# Altium footprint library P8.PcbLib: 20 footprints (part 1 of 2)
Each footprint in its own frame and in the unit in brackets; x right, y up, seen from the top. Pads: shape width x height; smd on the part's side, far side on the other; paste and mask are expansions set on the pad; w line width, h text height; cw(c..) or ccw(c..) is an arc to the next point about the centre after c.
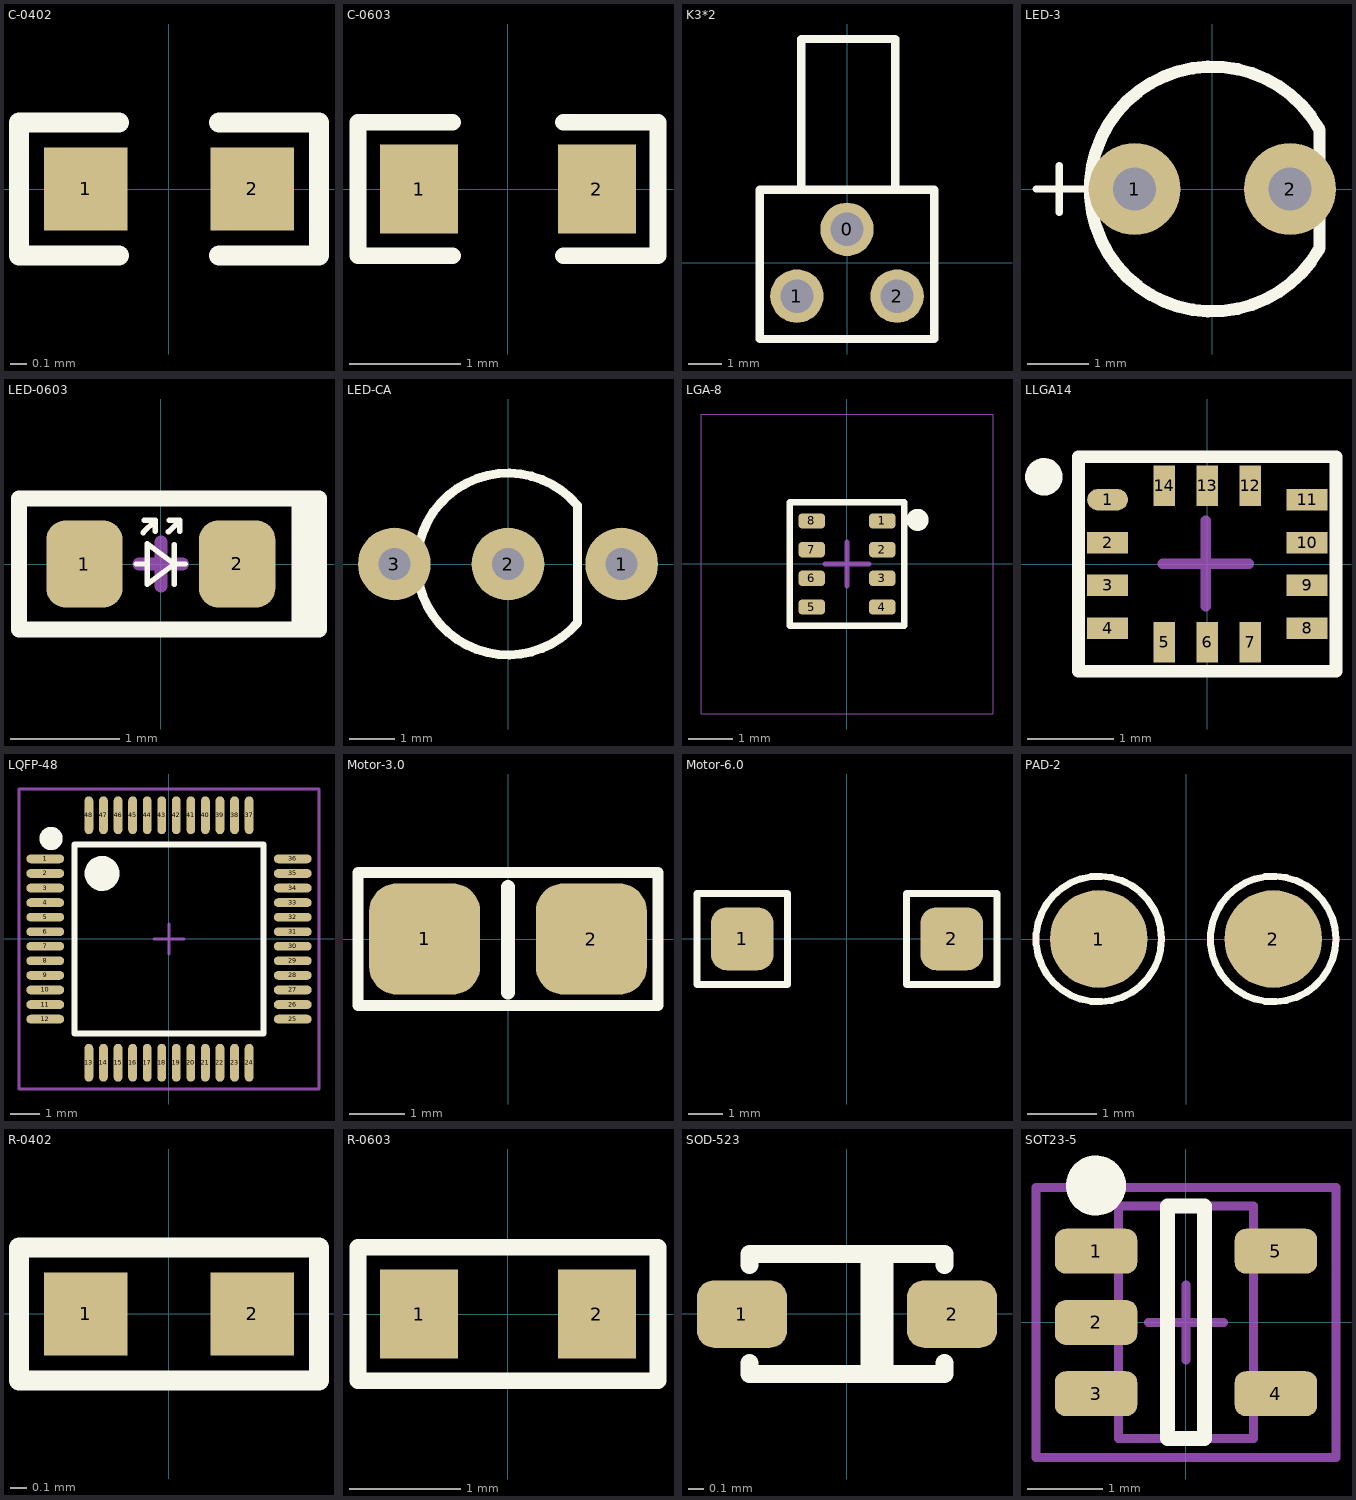
[diagram p0: the footprints below, top view; thin cyan lines are the x and y axes]

## C-0402 [mm]
height 1.4
pads (2):
  rect 0.5x0.5 smd mask+0.05: 1(-0.5,0) 2(0.5,0)
Top Overlay:
  lines w0.12: -0.3,-0.4 -0.9,-0.4 ; -0.3,0.4 -0.9,0.4 -0.9,-0.4 ; 0.3,-0.4 0.9,-0.4 0.9,0.4 0.3,0.4 ; -0.9,-0.4 -0.9,-0.4
3D body: height 0.5, standoff 0, extent -0.3,-0.25 0.3,0.25
3D body: height 0.5, standoff 0, extent 0.3,-0.25 0.5,0.25
3D body: height 0.5, standoff 0, extent -0.5,-0.25 -0.3,0.25

## C-0603 [mm]
height 0.8
pads (2):
  rect 0.7x0.8 smd mask+0.05: 1(-0.8,0) 2(0.8,0)
Top Overlay:
  lines w0.15: -0.5,-0.6 -1.35,-0.6 -1.35,0.6 -0.5,0.6 ; 0.5,-0.6 1.35,-0.6 1.35,0.6 0.5,0.6
3D body: height 0.7, standoff 0, extent -0.8,-0.4 -0.5,0.4
3D body: height 0.7, standoff 0, extent -0.5,-0.4 0.5,0.4
3D body: height 0.7, standoff 0, extent 0.5,-0.4 0.8,0.4

## K3*2 [mm]
height 0.65
pads (3):
  round 1.6 hole 1 mask+0.05: 0(0,1) 1(-1.5,-1) 2(1.5,-1)
Top Overlay:
  lines w0.254: -1.372,2.203 -1.372,6.703 1.448,6.703 1.448,2.203 ; -2.616,-2.286 2.616,-2.286 2.616,2.184 -2.616,2.184 -2.616,-2.286

## LED-3 [mm]
height 1.4
pads (2):
  round 1.5 hole 0.7 mask+0.05: 1(-1.27,0) 2(1.27,0)
Top Overlay:
  lines w0.12: -2.881,0 -2.119,0 ; -2.5,-0.381 -2.5,0.381
  lines w0.2: 1.751,-0.966 cw(c0,0) 1.751,0.966 1.751,-0.966
3D body: height 8, standoff 7.5, extent -1.984,-1.996 2,1.996
3D body: height 11.5, standoff 7.5, extent -1.488,-1.497 1.5,1.497
3D body: height 13, standoff 10, extent -1.484,-1.494 1.5,1.494
3D body: height 7.5, standoff 0, extent -2.083,-2.096 2.1,2.096

## LED-0603 [mm]
pads (2):
  rrect50% 0.7x0.8 smd mask+0.05: 1(-0.7,0) 2(0.7,0)
Top Overlay:
  lines w0.05: -0.225,0 -0.125,0 ; -0.163,0.287 -0.05,0.4 ; -0.15,0.4 -0.05,0.4 ; -0.05,0.3 -0.05,0.4 ; 0.069,0.294 0.175,0.4 ; 0.075,0.4 0.175,0.4 ; 0.125,-0.188 0.125,0.175 ; 0.175,0.3 0.175,0.4 ; 0.225,0 0.125,0 ; 0.125,0 -0.125,0.188 -0.125,-0.188 0.125,0
  lines w0.15: 1.275,-0.575 1.275,0.6 ; 1.35,-0.575 1.35,0.6 ; -1.3,-0.6 1.45,-0.6 1.45,0.6 -1.3,0.6 -1.3,-0.6
Mechanical 15:
  lines w0.12: -0.2,0 0.2,0 ; 0,-0.2 0,0.2
3D body: height 0.2, standoff 0, extent -0.5,-0.4 0.5,0.4
3D body: height 0.4, standoff 0.2, extent -0.5,-0.4 0.5,0.4
3D body: height 0.2, standoff 0, extent -0.8,-0.4 -0.5,0.4
3D body: height 0.2, standoff 0, extent 0.5,-0.4 0.8,0.4

## LED-CA [mm]
pads (3):
  round 1.6 hole 0.7 mask+0.05: 1(2.5,0) 2(0,0) 3(-2.5,0)
Top Overlay:
  lines w0.2: 1.528,1.28 1.528,-1.29 cw(c0,0) 1.533,1.284
3D body: height 10, standoff 0, extent -2.976,-2.994 3,2.994
3D body: height 15.5, standoff 12.5, extent -1.484,-1.494 1.5,1.494
3D body: height 14, standoff 10, extent -1.488,-1.497 1.5,1.497
3D body: height 10.5, standoff 10, extent -1.984,-1.996 2,1.996

## LGA-8 [mm] "FOR 2SMPB-02 AND BMP280"
height 0.85
pads (8):
  rrect50% 0.6x0.35 smd mask+0.05: 1(0.8,0.975) 2(0.8,0.325) 3(0.8,-0.325) 4(0.8,-0.975) 5(-0.8,-0.975) 6(-0.8,-0.325) 7(-0.8,0.325) 8(-0.8,0.975)
Top Overlay:
  circle w0.3: c1.6,1 r0.1
  lines w0.15: -1.3,-1.4 -1.3,1.4 1.3,1.4 1.3,-1.4 -1.3,-1.4
Mechanical 2:
  lines w0: -3.3,-3.4 -3.3,3.4 1.3,3.4 3.3,3.4 3.3,-3.4 -3.3,-3.4
Mechanical 15:
  lines w0.12: -0.5,0 0.5,0 ; 0,-0.5 0,0.5
3D body: height 0.95, standoff 0, extent -1,-1.275 1,1.275

## LLGA14 [mm]
height 1.4
pads (14):
  oval 0.475x0.25 smd: 1(-1.162,0.75)
  rect 0.475x0.25 smd: 2(-1.162,0.25) 3(-1.162,-0.25) 4(-1.162,-0.75) 8(1.163,-0.75) 9(1.163,-0.25) 10(1.163,0.25) 11(1.163,0.75)
  rect 0.25x0.475 smd: 5(-0.5,-0.913) 6(0,-0.913) 7(0.5,-0.913) 12(0.5,0.913) 13(0,0.913) 14(-0.5,0.913)
Top Overlay:
  circle w0.254: c-1.905,1.016 r0.092
  lines w0.15: -1.5,-1.25 -1.5,1.25 1.5,1.25 1.5,-1.25 -1.5,-1.25
Mechanical 15:
  lines w0.12: -0.518,0.004 0.482,0.004 ; -0.018,-0.496 -0.018,0.504
3D body: height 0.9, standoff 0.01, extent -1.5,-1.286 1.5,1.286

## LQFP-48 [mm] "TSQFP, 48-Leads, Body 9.1x9.1mm (max), Pitch 0.50mm, IPC Medium Density"
height 1.5
pads (48):
  oval 1.3x0.3 smd mask+0.05: 1(-4.25,2.75) 2(-4.25,2.25) 3(-4.25,1.75) 4(-4.25,1.25) 5(-4.25,0.75) 6(-4.25,0.25) 7(-4.25,-0.25) 8(-4.25,-0.75) 9(-4.25,-1.25) 10(-4.25,-1.75) 11(-4.25,-2.25) 12(-4.25,-2.75) 25(4.25,-2.75) 26(4.25,-2.25) 27(4.25,-1.75) 28(4.25,-1.25) 29(4.25,-0.75) 30(4.25,-0.25) 31(4.25,0.25) 32(4.25,0.75) 33(4.25,1.25) 34(4.25,1.75) 35(4.25,2.25) 36(4.25,2.75)
  oval 0.3x1.3 smd mask+0.05: 13(-2.75,-4.25) 14(-2.25,-4.25) 15(-1.75,-4.25) 16(-1.25,-4.25) 17(-0.75,-4.25) 18(-0.25,-4.25) 19(0.25,-4.25) 20(0.75,-4.25) 21(1.25,-4.25) 22(1.75,-4.25) 23(2.25,-4.25) 24(2.75,-4.25) 37(2.75,4.25) 38(2.25,4.25) 39(1.75,4.25) 40(1.25,4.25) 41(0.75,4.25) 42(0.25,4.25) 43(-0.25,4.25) 44(-0.75,4.25) 45(-1.25,4.25) 46(-1.75,4.25) 47(-2.25,4.25) 48(-2.75,4.25)
Top Overlay:
  circle w0.6: c-2.3,2.25 r0.3
  circle w0.4: c-4.05,3.45 r0.2
  lines w0.2: -3.25,-3.25 3.25,-3.25 3.25,3.25 -3.25,3.25 -3.25,-3.25
Mechanical 15:
  lines w0.12: -0.5,0 0.5,0 ; 0,-0.5 0,0.5 ; -5.15,-5.15 5.15,-5.15 5.15,5.15 -5.15,5.15 -5.15,-5.15
3D body: height 1.56, standoff 0, extent -4.5,-4.487 4.5,4.513

## Motor-3.0 [mm]
height 1.4
pads (2):
  rrect50% 2x2 smd mask+0.05: 1(-1.5,0) 2(1.5,0)
Top Overlay:
  lines w0.2: -2.7,-1.2 2.7,-1.2 2.7,1.2 -2.7,1.2 -2.7,-1.2
  lines w0.25: 0,-0.965 0,0.94
3D body: height 0.5, standoff 0, extent -2.2,-0.7 -0.8,0.7
3D body: height 0.5, standoff 0, extent 0.8,-0.7 2.2,0.7

## Motor-6.0 [mm]
pads (2):
  rrect50% 1.8x1.8 smd mask+0.05: 1(-3,0) 2(3,0)
Top Overlay:
  lines w0.2: -4.3,-1.3 -4.3,1.295 -1.7,1.295 -1.7,-1.3 -4.3,-1.3 ; 1.7,-1.3 4.3,-1.3 4.3,1.295 1.7,1.295 1.7,-1.3
3D body: height 0.5, standoff 0, extent -3.7,-0.7 -2.3,0.7
3D body: height 0.5, standoff 0, extent 2.3,-0.7 3.7,0.7

## PAD-2 [mm]
pads (2):
  round 1.4 smd mask+0.05: 1(-1.25,0) 2(1.25,0)
Top Overlay:
  circle w0.1: c1.25,0 r0.9
  circle w0.1: c-1.25,0 r0.9
3D body: height 0.5, standoff 0, extent -1.759,-0.51 -0.76,0.49
3D body: height 0.5, standoff 0, extent 0.741,-0.51 1.74,0.49

## R-0402 [mm]
height 1.5
pads (2):
  rect 0.5x0.5 smd mask+0.05: 1(-0.5,0) 2(0.5,0)
Top Overlay:
  lines w0.12: -0.9,-0.4 -0.9,0.4 0.9,0.4 0.9,-0.4 -0.9,-0.4 ; -0.9,-0.4 -0.9,-0.4
3D body: height 0.5, standoff 0, extent -0.5,-0.25 -0.3,0.25
3D body: height 0.5, standoff 0, extent 0.3,-0.25 0.5,0.25
3D body: height 0.5, standoff 0, extent -0.3,-0.25 0.3,0.25

## R-0603 [mm]
height 0.5
pads (2):
  rect 0.7x0.8 smd mask+0.05: 1(-0.8,0) 2(0.8,0)
Top Overlay:
  lines w0.15: -1.35,-0.6 1.35,-0.6 1.35,0.6 -1.35,0.6 -1.35,-0.6
3D body: height 0.7, standoff 0, extent -0.8,-0.4 -0.5,0.4
3D body: height 0.7, standoff 0, extent -0.5,-0.4 0.5,0.4
3D body: height 0.7, standoff 0, extent 0.5,-0.4 0.8,0.4

## SOD-523 [mm]
height 1.4
pads (2):
  rrect50% 0.6x0.45 smd mask+0.05: 1(-0.7,0) 2(0.7,0)
Top Overlay:
  lines w0.12: -0.65,-0.325 -0.65,-0.4 0.65,-0.4 0.65,-0.325 ; -0.65,0.325 -0.65,0.4 0.65,0.4 0.65,0.325 ; 0.15,-0.4 0.15,0.4 ; 0.25,-0.4 0.25,0.4
3D body: height 0.65, standoff 0, extent -0.65,-0.4 0.65,0.4
3D body: height 0.65, standoff 0.01, extent 0.4,-0.4 0.6,0.4
3D body: height 0.18, standoff 0.01, extent 0.4,-0.15 0.9,0.15
3D body: height 0.18, standoff 0.01, extent -0.9,-0.15 -0.4,0.15

## SOT23-5 [mm]
height 1.4
pads (5):
  rrect50% 1.1x0.6 smd mask+0.05: 1(-1.2,0.95) 2(-1.2,0) 3(-1.2,-0.95) 4(1.2,-0.95) 5(1.2,0.95)
Top Overlay:
  circle w0.4: c-1.2,1.825 r0.2
  lines w0.2: -0.25,-1.55 -0.25,1.55 0.25,1.55 0.25,-1.55 -0.25,-1.55
Mechanical 13:
  lines w0.12: -0.9,-1.55 0.9,-1.55 0.9,1.55 -0.9,1.55 -0.9,-1.55
Mechanical 15:
  lines w0.12: -0.5,0 0.5,0 ; 0,-0.5 0,0.5 ; -2,-1.8 2,-1.8 2,1.8 -2,1.8 -2,-1.8
3D body: height 1.45, standoff 0, extent -0.9,-1.55 0.9,1.55
3D body: height 0.4, standoff 0, extent -1.5,-1.15 -0.52,-0.75
3D body: height 0.4, standoff 0, extent -1.5,0.75 -0.52,1.15
3D body: height 0.4, standoff 0, extent -1.5,-0.2 -0.52,0.2
3D body: height 0.4, standoff 0, extent 0.52,0.75 1.5,1.15
3D body: height 0.4, standoff 0, extent 0.52,-1.15 1.5,-0.75